# EAGLE library part 61001013321 (library Wuerth_Elektronik_eiCan_Pin_&_Socked_Headers_v1.3)
WR-PHD 2.54mm SMT Socket Header, 10 Pins
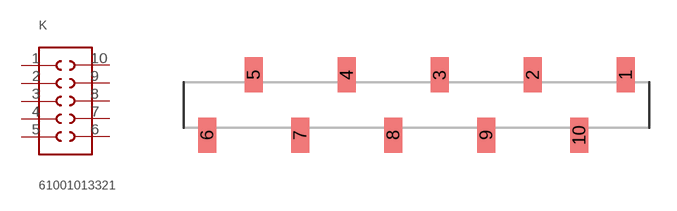
[diagram p242: symbol with the pads of 61001013321; footprint 61001013321]

Designator prefix K

## 61001013321  [61001013321]
1  1  pas
2  2  pas
3  3  pas
4  4  pas
5  5  pas
6  6  pas
7  7  pas
8  8  pas
9  9  pas
10  10  pas

## Footprint 61001013321 (pad centres in mm)
WR-PHD 2.54mm SMT Socket Header, 10 Pins
smd 1 x 1.91: 1 11.43,1.645; 2 6.35,1.645; 3 1.27,1.645; 4 -3.81,1.645; 5 -8.89,1.645; 6 -11.43,-1.645; 7 -6.35,-1.645; 8 -1.27,-1.645; 9 3.81,-1.645; 10 8.89,-1.645